# Altium schematic symbol library BB-BONE-CAPE.Schlib: 1 symbol
Pins are listed as number, name and electrical type; pins without a type are passive.

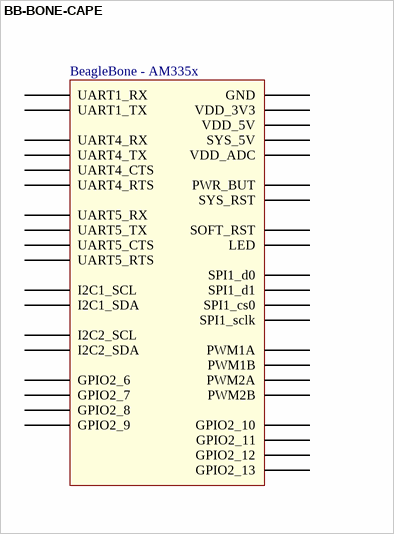
[diagram p0: symbol BB-BONE-CAPE]

## BB-BONE-CAPE
designator *
BeagleBone cape layout
pins: A13 SPI1_sclk "SPI0_sclk", A16 I2C1_SCL, B13 SPI1_d0 "SPI0_d0", B16 I2C1_SDA, C12 SPI1_cs0 "SPI0_cs0", D12 SPI1_d1 "SPI0_d1", D15 UART1_TX, D16 UART1_RX, D17 I2C2_SCL, D18 I2C2_SDA, GND, PWR_BUT "PWR_BUT, active low.", R1 GPIO2_6 "UART0_RX", R2 GPIO2_7 "UART0_TX", R3 GPIO2_8 "UART0_CTS", R4 GPIO2_9 "UART0_RTS", SYS_5V, SYS_RST "System Reset", T1 GPIO2_10 "UART1_RX", T2 GPIO2_11 "UART1_TX", T3 GPIO2_12 "UART1_CTS", T4 GPIO2_13 "UART1_RTS", T10 PWM2B "UART1_RTS", T14 PWM1B "UART1_TX", T17 UART4_RX "UART0_RX", U1 UART5_TX "UART0_TX", U2 UART5_RX "UART0_RX", U7 SOFT_RST, U10 PWM2A "UART1_CTS", U14 PWM1A "UART1_RX", U17 UART4_TX "UART0_TX", V2 UART4_CTS "UART0_CTS", V3 UART4_RTS "UART0_RTS", V3 UART5_RTS "UART0_RTS", V4 UART5_CTS "UART0_CTS", V7 LED, VDD_3V3 "VDD_3V3EXP", VDD_5V, VDD_ADC "VDD_ADC(1.8v)"
text: BeagleBone - AM335x